# Altium footprint library Header_254.PcbLib: 78 footprints (part 1 of 9)
Each footprint in its own frame and in the unit in brackets; x right, y up, seen from the top. Pads: shape width x height; smd on the part's side, far side on the other; paste and mask are expansions set on the pad; w line width, h text height; cw(c..) or ccw(c..) is an arc to the next point about the centre after c.
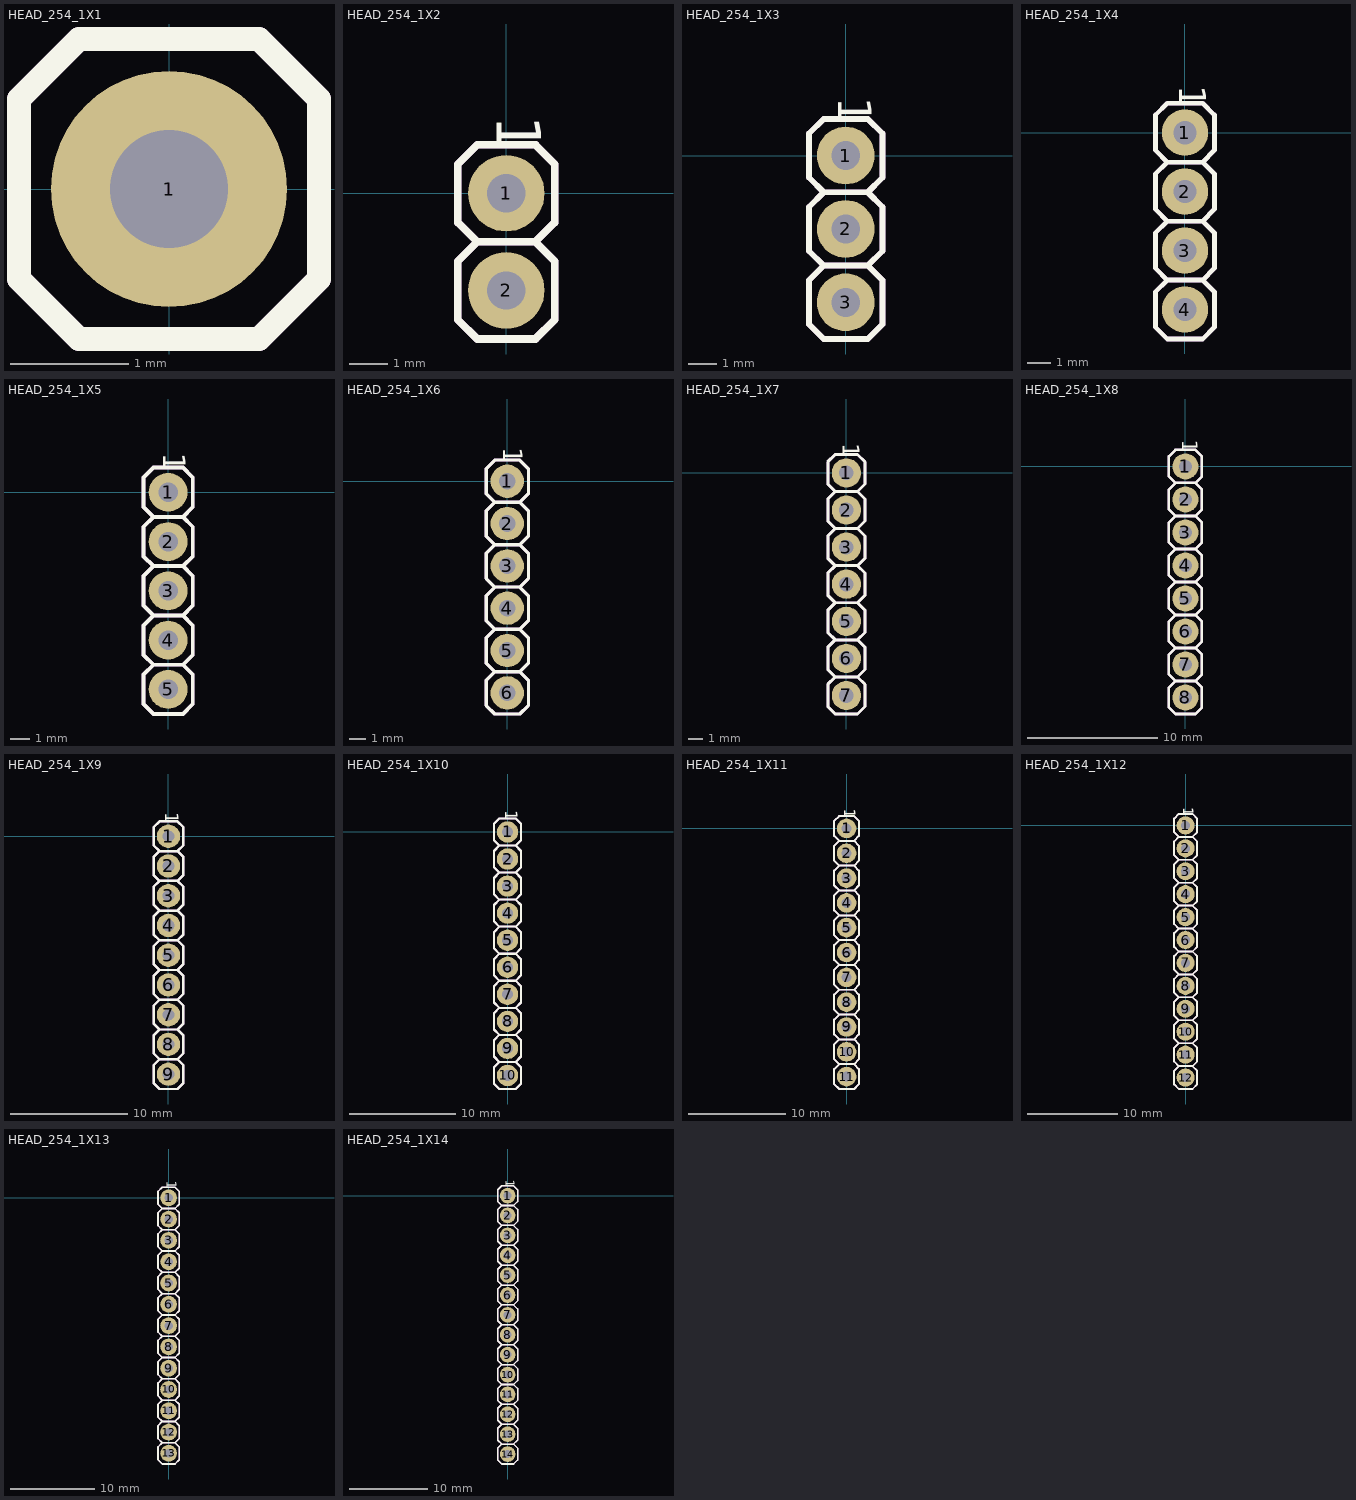
[diagram p0: the footprints below, top view; thin cyan lines are the x and y axes]

## HEAD_254_1X1 [mm] "Header 2.54mm 1x1"
pads (1):
  round 2 hole 1: 1(0,0)
Top Overlay:
  lines w0.2: -1.27,-0.762 -1.27,0.762 -0.762,1.27 0.762,1.27 1.27,0.762 1.27,-0.762 0.762,-1.27 -0.762,-1.27 -1.27,-0.762
Top Assembly:
  lines w0.2: -1.27,-0.762 -0.762,-1.27 0.762,-1.27 1.27,-0.762 1.27,0.762 0.762,1.27 -0.762,1.27 -1.27,0.762 -1.27,-0.762
3D body: height 2, standoff 0, extent -1.27,-1.27 1.27,1.27
3D body: height 10, standoff -3, extent -0.35,-0.35 0.35,0.35

## HEAD_254_1X2 [mm] "Header 2.54mm 1x2"
pads (2):
  round 2 hole 1: 1(0,0) 2(0,-2.54)
Top Overlay:
  lines w0.2: -0.762,-1.27 -1.27,-1.778 -1.27,-3.302 -0.762,-3.81 0.762,-3.81 1.27,-3.302 1.27,-1.778 0.762,-1.27 ; -0.762,-1.27 -1.27,-0.762 -1.27,0.762 -0.762,1.27 0.762,1.27 1.27,0.762 1.27,-0.762 0.762,-1.27 ; -0.762,-1.27 0.762,-1.27
  text "1" at -0.642,2.036 h2
Bottom Overlay:
  text "1" at -0.642,1.264 h2
Top Assembly:
  lines w0.2: -0.762,-1.27 -1.27,-1.778 -1.27,-3.302 -0.762,-3.81 0.762,-3.81 1.27,-3.302 1.27,-1.778 0.762,-1.27 ; -0.762,-1.27 -1.27,-0.762 -1.27,0.762 -0.762,1.27 0.762,1.27 1.27,0.762 1.27,-0.762 0.762,-1.27 ; -0.762,-1.27 0.762,-1.27
3D body: height 10, standoff -3, extent -0.35,-2.89 0.35,-2.19
3D body: height 2, standoff 0, extent -1.27,-3.81 1.27,-1.27
3D body: height 10, standoff -3, extent -0.35,-0.35 0.35,0.35
3D body: height 2, standoff 0, extent -1.27,-1.27 1.27,1.27

## HEAD_254_1X3 [mm] "Header 2.54mm 1x3"
pads (3):
  round 2 hole 1: 1(0,0) 2(0,-2.54) 3(0,-5.08)
Top Overlay:
  lines w0.2: -0.762,-3.81 -1.27,-4.318 -1.27,-5.842 -0.762,-6.35 0.762,-6.35 1.27,-5.842 1.27,-4.318 0.762,-3.81 ; -0.762,-3.81 -1.27,-3.302 -1.27,-1.778 -0.762,-1.27 ; -0.762,-3.81 0.762,-3.81 ; -0.762,-1.27 -1.27,-0.762 -1.27,0.762 -0.762,1.27 0.762,1.27 1.27,0.762 1.27,-0.762 0.762,-1.27 ; -0.762,-1.27 0.762,-1.27 ; 0.762,-3.81 1.27,-3.302 1.27,-1.778 0.762,-1.27
  text "1" at -0.642,2.036 h2
Bottom Overlay:
  text "1" at -0.642,1.264 h2
Top Assembly:
  lines w0.2: -0.762,-3.81 -1.27,-4.318 -1.27,-5.842 -0.762,-6.35 0.762,-6.35 1.27,-5.842 1.27,-4.318 0.762,-3.81 ; -0.762,-3.81 -1.27,-3.302 -1.27,-1.778 -0.762,-1.27 ; -0.762,-3.81 0.762,-3.81 ; -0.762,-1.27 -1.27,-0.762 -1.27,0.762 -0.762,1.27 0.762,1.27 1.27,0.762 1.27,-0.762 0.762,-1.27 ; -0.762,-1.27 0.762,-1.27 ; 0.762,-3.81 1.27,-3.302 1.27,-1.778 0.762,-1.27
3D body: height 10, standoff -3, extent -0.35,-5.43 0.35,-4.73
3D body: height 2, standoff 0, extent -1.27,-6.35 1.27,-3.81
3D body: height 10, standoff -3, extent -0.35,-2.89 0.35,-2.19
3D body: height 2, standoff 0, extent -1.27,-3.81 1.27,-1.27
3D body: height 10, standoff -3, extent -0.35,-0.35 0.35,0.35
3D body: height 2, standoff 0, extent -1.27,-1.27 1.27,1.27

## HEAD_254_1X4 [mm] "Header 2.54mm 1x4"
pads (4):
  round 2 hole 1: 1(0,0) 2(0,-2.54) 3(0,-5.08) 4(0,-7.62)
Top Overlay:
  lines w0.2: -0.762,-6.35 -1.27,-5.842 -1.27,-4.318 -0.762,-3.81 ; -0.762,-6.35 0.762,-6.35 ; -0.762,-6.35 -1.27,-6.858 -1.27,-8.382 -0.762,-8.89 0.762,-8.89 1.27,-8.382 1.27,-6.858 0.762,-6.35 ; -0.762,-3.81 -1.27,-3.302 -1.27,-1.778 -0.762,-1.27 ; -0.762,-3.81 0.762,-3.81 ; -0.762,-1.27 -1.27,-0.762 -1.27,0.762 -0.762,1.27 0.762,1.27 1.27,0.762 1.27,-0.762 0.762,-1.27 ; -0.762,-1.27 0.762,-1.27 ; 0.762,-6.35 1.27,-5.842 1.27,-4.318 0.762,-3.81 ; 0.762,-3.81 1.27,-3.302 1.27,-1.778 0.762,-1.27
  text "1" at -0.642,2.036 h2
Bottom Overlay:
  text "1" at -0.642,1.264 h2
Top Assembly:
  lines w0.2: -0.762,-6.35 -1.27,-5.842 -1.27,-4.318 -0.762,-3.81 ; -0.762,-6.35 0.762,-6.35 ; -0.762,-6.35 -1.27,-6.858 -1.27,-8.382 -0.762,-8.89 0.762,-8.89 1.27,-8.382 1.27,-6.858 0.762,-6.35 ; -0.762,-3.81 -1.27,-3.302 -1.27,-1.778 -0.762,-1.27 ; -0.762,-3.81 0.762,-3.81 ; -0.762,-1.27 -1.27,-0.762 -1.27,0.762 -0.762,1.27 0.762,1.27 1.27,0.762 1.27,-0.762 0.762,-1.27 ; -0.762,-1.27 0.762,-1.27 ; 0.762,-6.35 1.27,-5.842 1.27,-4.318 0.762,-3.81 ; 0.762,-3.81 1.27,-3.302 1.27,-1.778 0.762,-1.27
3D body: height 10, standoff -3, extent -0.35,-5.43 0.35,-4.73
3D body: height 2, standoff 0, extent -1.27,-6.35 1.27,-3.81
3D body: height 10, standoff -3, extent -0.35,-2.89 0.35,-2.19
3D body: height 2, standoff 0, extent -1.27,-3.81 1.27,-1.27
3D body: height 10, standoff -3, extent -0.35,-0.35 0.35,0.35
3D body: height 2, standoff 0, extent -1.27,-1.27 1.27,1.27
3D body: height 10, standoff -3, extent -0.35,-7.97 0.35,-7.27
3D body: height 2, standoff 0, extent -1.27,-8.89 1.27,-6.35

## HEAD_254_1X5 [mm] "Header 2.54mm 1x5"
pads (5):
  round 2 hole 1: 1(0,0) 2(0,-2.54) 3(0,-5.08) 4(0,-7.62) 5(0,-10.16)
Top Overlay:
  lines w0.2: -0.762,-8.89 0.762,-8.89 ; -0.762,-8.89 -1.27,-8.382 -1.27,-6.858 -0.762,-6.35 ; -0.762,-8.89 -1.27,-9.398 -1.27,-10.922 -0.762,-11.43 0.762,-11.43 1.27,-10.922 1.27,-9.398 0.762,-8.89 ; -0.762,-6.35 0.762,-6.35 ; -0.762,-6.35 -1.27,-5.842 -1.27,-4.318 -0.762,-3.81 ; -0.762,-3.81 0.762,-3.81 ; -0.762,-3.81 -1.27,-3.302 -1.27,-1.778 -0.762,-1.27 ; -0.762,-1.27 0.762,-1.27 ; -0.762,-1.27 -1.27,-0.762 -1.27,0.762 -0.762,1.27 0.762,1.27 1.27,0.762 1.27,-0.762 0.762,-1.27 ; 0.762,-8.89 1.27,-8.382 1.27,-6.858 0.762,-6.35 ; 0.762,-6.35 1.27,-5.842 1.27,-4.318 0.762,-3.81 ; 0.762,-3.81 1.27,-3.302 1.27,-1.778 0.762,-1.27
  text "1" at -0.642,2.036 h2
Bottom Overlay:
  text "1" at -0.642,1.264 h2
Top Assembly:
  lines w0.2: -0.762,-8.89 0.762,-8.89 ; -0.762,-8.89 -1.27,-8.382 -1.27,-6.858 -0.762,-6.35 ; -0.762,-8.89 -1.27,-9.398 -1.27,-10.922 -0.762,-11.43 0.762,-11.43 1.27,-10.922 1.27,-9.398 0.762,-8.89 ; -0.762,-6.35 0.762,-6.35 ; -0.762,-6.35 -1.27,-5.842 -1.27,-4.318 -0.762,-3.81 ; -0.762,-3.81 0.762,-3.81 ; -0.762,-3.81 -1.27,-3.302 -1.27,-1.778 -0.762,-1.27 ; -0.762,-1.27 0.762,-1.27 ; -0.762,-1.27 -1.27,-0.762 -1.27,0.762 -0.762,1.27 0.762,1.27 1.27,0.762 1.27,-0.762 0.762,-1.27 ; 0.762,-8.89 1.27,-8.382 1.27,-6.858 0.762,-6.35 ; 0.762,-6.35 1.27,-5.842 1.27,-4.318 0.762,-3.81 ; 0.762,-3.81 1.27,-3.302 1.27,-1.778 0.762,-1.27
3D body: height 2, standoff 0, extent -1.27,-8.89 1.27,-6.35
3D body: height 10, standoff -3, extent -0.35,-7.97 0.35,-7.27
3D body: height 2, standoff 0, extent -1.27,-1.27 1.27,1.27
3D body: height 10, standoff -3, extent -0.35,-0.35 0.35,0.35
3D body: height 2, standoff 0, extent -1.27,-3.81 1.27,-1.27
3D body: height 10, standoff -3, extent -0.35,-2.89 0.35,-2.19
3D body: height 2, standoff 0, extent -1.27,-6.35 1.27,-3.81
3D body: height 10, standoff -3, extent -0.35,-5.43 0.35,-4.73
3D body: height 2, standoff 0, extent -1.27,-11.43 1.27,-8.89
3D body: height 10, standoff -3, extent -0.35,-10.51 0.35,-9.81

## HEAD_254_1X6 [mm] "Header 2.54mm 1x6"
pads (6):
  round 2 hole 1: 1(0,0) 2(0,-2.54) 3(0,-5.08) 4(0,-7.62) 5(0,-10.16) 6(0,-12.7)
Top Overlay:
  lines w0.2: -0.762,-11.43 0.762,-11.43 ; -0.762,-11.43 -1.27,-10.922 -1.27,-9.398 -0.762,-8.89 ; -0.762,-11.43 -1.27,-11.938 -1.27,-13.462 -0.762,-13.97 0.762,-13.97 1.27,-13.462 1.27,-11.938 0.762,-11.43 ; -0.762,-8.89 0.762,-8.89 ; -0.762,-8.89 -1.27,-8.382 -1.27,-6.858 -0.762,-6.35 ; -0.762,-6.35 0.762,-6.35 ; -0.762,-6.35 -1.27,-5.842 -1.27,-4.318 -0.762,-3.81 ; -0.762,-3.81 0.762,-3.81 ; -0.762,-3.81 -1.27,-3.302 -1.27,-1.778 -0.762,-1.27 ; -0.762,-1.27 0.762,-1.27 ; -0.762,-1.27 -1.27,-0.762 -1.27,0.762 -0.762,1.27 0.762,1.27 1.27,0.762 1.27,-0.762 0.762,-1.27 ; 0.762,-11.43 1.27,-10.922 1.27,-9.398 0.762,-8.89 ; 0.762,-8.89 1.27,-8.382 1.27,-6.858 0.762,-6.35 ; 0.762,-6.35 1.27,-5.842 1.27,-4.318 0.762,-3.81 ; 0.762,-3.81 1.27,-3.302 1.27,-1.778 0.762,-1.27
  text "1" at -0.642,2.036 h2
Bottom Overlay:
  text "1" at -0.642,1.264 h2
Top Assembly:
  lines w0.2: -0.762,-11.43 0.762,-11.43 ; -0.762,-11.43 -1.27,-10.922 -1.27,-9.398 -0.762,-8.89 ; -0.762,-11.43 -1.27,-11.938 -1.27,-13.462 -0.762,-13.97 0.762,-13.97 1.27,-13.462 1.27,-11.938 0.762,-11.43 ; -0.762,-8.89 0.762,-8.89 ; -0.762,-8.89 -1.27,-8.382 -1.27,-6.858 -0.762,-6.35 ; -0.762,-6.35 0.762,-6.35 ; -0.762,-6.35 -1.27,-5.842 -1.27,-4.318 -0.762,-3.81 ; -0.762,-3.81 0.762,-3.81 ; -0.762,-3.81 -1.27,-3.302 -1.27,-1.778 -0.762,-1.27 ; -0.762,-1.27 0.762,-1.27 ; -0.762,-1.27 -1.27,-0.762 -1.27,0.762 -0.762,1.27 0.762,1.27 1.27,0.762 1.27,-0.762 0.762,-1.27 ; 0.762,-11.43 1.27,-10.922 1.27,-9.398 0.762,-8.89 ; 0.762,-8.89 1.27,-8.382 1.27,-6.858 0.762,-6.35 ; 0.762,-6.35 1.27,-5.842 1.27,-4.318 0.762,-3.81 ; 0.762,-3.81 1.27,-3.302 1.27,-1.778 0.762,-1.27
3D body: height 2, standoff 0, extent -1.27,-8.89 1.27,-6.35
3D body: height 10, standoff -3, extent -0.35,-7.97 0.35,-7.27
3D body: height 2, standoff 0, extent -1.27,-1.27 1.27,1.27
3D body: height 10, standoff -3, extent -0.35,-0.35 0.35,0.35
3D body: height 2, standoff 0, extent -1.27,-3.81 1.27,-1.27
3D body: height 10, standoff -3, extent -0.35,-2.89 0.35,-2.19
3D body: height 2, standoff 0, extent -1.27,-6.35 1.27,-3.81
3D body: height 10, standoff -3, extent -0.35,-5.43 0.35,-4.73
3D body: height 2, standoff 0, extent -1.27,-11.43 1.27,-8.89
3D body: height 10, standoff -3, extent -0.35,-10.51 0.35,-9.81
3D body: height 2, standoff 0, extent -1.27,-13.97 1.27,-11.43
3D body: height 10, standoff -3, extent -0.35,-13.05 0.35,-12.35

## HEAD_254_1X7 [mm] "Header 2.54mm 1x7"
pads (7):
  round 2 hole 1: 1(0,0) 2(0,-2.54) 3(0,-5.08) 4(0,-7.62) 5(0,-10.16) 6(0,-12.7) 7(0,-15.24)
Top Overlay:
  lines w0.2: -0.762,-13.97 0.762,-13.97 ; -0.762,-13.97 -1.27,-13.462 -1.27,-11.938 -0.762,-11.43 ; -0.762,-13.97 -1.27,-14.478 -1.27,-16.002 -0.762,-16.51 0.762,-16.51 1.27,-16.002 1.27,-14.478 0.762,-13.97 ; -0.762,-11.43 0.762,-11.43 ; -0.762,-11.43 -1.27,-10.922 -1.27,-9.398 -0.762,-8.89 ; -0.762,-8.89 0.762,-8.89 ; -0.762,-8.89 -1.27,-8.382 -1.27,-6.858 -0.762,-6.35 ; -0.762,-6.35 0.762,-6.35 ; -0.762,-6.35 -1.27,-5.842 -1.27,-4.318 -0.762,-3.81 ; -0.762,-3.81 0.762,-3.81 ; -0.762,-3.81 -1.27,-3.302 -1.27,-1.778 -0.762,-1.27 ; -0.762,-1.27 0.762,-1.27 ; -0.762,-1.27 -1.27,-0.762 -1.27,0.762 -0.762,1.27 0.762,1.27 1.27,0.762 1.27,-0.762 0.762,-1.27 ; 0.762,-13.97 1.27,-13.462 1.27,-11.938 0.762,-11.43 ; 0.762,-11.43 1.27,-10.922 1.27,-9.398 0.762,-8.89 ; 0.762,-8.89 1.27,-8.382 1.27,-6.858 0.762,-6.35 ; 0.762,-6.35 1.27,-5.842 1.27,-4.318 0.762,-3.81 ; 0.762,-3.81 1.27,-3.302 1.27,-1.778 0.762,-1.27
  text "1" at -0.642,2.036 h2
Bottom Overlay:
  text "1" at -0.642,1.264 h2
Top Assembly:
  lines w0.2: -0.762,-13.97 0.762,-13.97 ; -0.762,-13.97 -1.27,-13.462 -1.27,-11.938 -0.762,-11.43 ; -0.762,-13.97 -1.27,-14.478 -1.27,-16.002 -0.762,-16.51 0.762,-16.51 1.27,-16.002 1.27,-14.478 0.762,-13.97 ; -0.762,-11.43 0.762,-11.43 ; -0.762,-11.43 -1.27,-10.922 -1.27,-9.398 -0.762,-8.89 ; -0.762,-8.89 0.762,-8.89 ; -0.762,-8.89 -1.27,-8.382 -1.27,-6.858 -0.762,-6.35 ; -0.762,-6.35 0.762,-6.35 ; -0.762,-6.35 -1.27,-5.842 -1.27,-4.318 -0.762,-3.81 ; -0.762,-3.81 0.762,-3.81 ; -0.762,-3.81 -1.27,-3.302 -1.27,-1.778 -0.762,-1.27 ; -0.762,-1.27 0.762,-1.27 ; -0.762,-1.27 -1.27,-0.762 -1.27,0.762 -0.762,1.27 0.762,1.27 1.27,0.762 1.27,-0.762 0.762,-1.27 ; 0.762,-13.97 1.27,-13.462 1.27,-11.938 0.762,-11.43 ; 0.762,-11.43 1.27,-10.922 1.27,-9.398 0.762,-8.89 ; 0.762,-8.89 1.27,-8.382 1.27,-6.858 0.762,-6.35 ; 0.762,-6.35 1.27,-5.842 1.27,-4.318 0.762,-3.81 ; 0.762,-3.81 1.27,-3.302 1.27,-1.778 0.762,-1.27
3D body: height 2, standoff 0, extent -1.27,-8.89 1.27,-6.35
3D body: height 10, standoff -3, extent -0.35,-7.97 0.35,-7.27
3D body: height 2, standoff 0, extent -1.27,-1.27 1.27,1.27
3D body: height 10, standoff -3, extent -0.35,-0.35 0.35,0.35
3D body: height 2, standoff 0, extent -1.27,-3.81 1.27,-1.27
3D body: height 10, standoff -3, extent -0.35,-2.89 0.35,-2.19
3D body: height 2, standoff 0, extent -1.27,-6.35 1.27,-3.81
3D body: height 10, standoff -3, extent -0.35,-5.43 0.35,-4.73
3D body: height 2, standoff 0, extent -1.27,-11.43 1.27,-8.89
3D body: height 10, standoff -3, extent -0.35,-10.51 0.35,-9.81
3D body: height 2, standoff 0, extent -1.27,-13.97 1.27,-11.43
3D body: height 10, standoff -3, extent -0.35,-13.05 0.35,-12.35
3D body: height 2, standoff 0, extent -1.27,-16.51 1.27,-13.97
3D body: height 10, standoff -3, extent -0.35,-15.59 0.35,-14.89

## HEAD_254_1X8 [mm] "Header 2.54mm 1x8"
pads (8):
  round 2 hole 1: 1(0,0) 2(0,-2.54) 3(0,-5.08) 4(0,-7.62) 5(0,-10.16) 6(0,-12.7) 7(0,-15.24) 8(0,-17.78)
Top Overlay:
  lines w0.2: -0.762,-16.51 -1.27,-17.018 -1.27,-18.542 -0.762,-19.05 0.762,-19.05 1.27,-18.542 1.27,-17.018 0.762,-16.51 ; -0.762,-16.51 -1.27,-16.002 -1.27,-14.478 -0.762,-13.97 ; -0.762,-16.51 0.762,-16.51 ; -0.762,-13.97 -1.27,-13.462 -1.27,-11.938 -0.762,-11.43 ; -0.762,-13.97 0.762,-13.97 ; -0.762,-11.43 -1.27,-10.922 -1.27,-9.398 -0.762,-8.89 ; -0.762,-11.43 0.762,-11.43 ; -0.762,-8.89 -1.27,-8.382 -1.27,-6.858 -0.762,-6.35 ; -0.762,-8.89 0.762,-8.89 ; -0.762,-6.35 -1.27,-5.842 -1.27,-4.318 -0.762,-3.81 ; -0.762,-6.35 0.762,-6.35 ; -0.762,-3.81 -1.27,-3.302 -1.27,-1.778 -0.762,-1.27 ; -0.762,-3.81 0.762,-3.81 ; -0.762,-1.27 -1.27,-0.762 -1.27,0.762 -0.762,1.27 0.762,1.27 1.27,0.762 1.27,-0.762 0.762,-1.27 ; -0.762,-1.27 0.762,-1.27 ; 0.762,-16.51 1.27,-16.002 1.27,-14.478 0.762,-13.97 ; 0.762,-13.97 1.27,-13.462 1.27,-11.938 0.762,-11.43 ; 0.762,-11.43 1.27,-10.922 1.27,-9.398 0.762,-8.89 ; 0.762,-8.89 1.27,-8.382 1.27,-6.858 0.762,-6.35 ; 0.762,-6.35 1.27,-5.842 1.27,-4.318 0.762,-3.81 ; 0.762,-3.81 1.27,-3.302 1.27,-1.778 0.762,-1.27
  text "1" at -0.642,2.036 h2
Bottom Overlay:
  text "1" at -0.642,1.264 h2
Top Assembly:
  lines w0.2: -0.762,-16.51 -1.27,-17.018 -1.27,-18.542 -0.762,-19.05 0.762,-19.05 1.27,-18.542 1.27,-17.018 0.762,-16.51 ; -0.762,-16.51 -1.27,-16.002 -1.27,-14.478 -0.762,-13.97 ; -0.762,-16.51 0.762,-16.51 ; -0.762,-13.97 -1.27,-13.462 -1.27,-11.938 -0.762,-11.43 ; -0.762,-13.97 0.762,-13.97 ; -0.762,-11.43 -1.27,-10.922 -1.27,-9.398 -0.762,-8.89 ; -0.762,-11.43 0.762,-11.43 ; -0.762,-8.89 -1.27,-8.382 -1.27,-6.858 -0.762,-6.35 ; -0.762,-8.89 0.762,-8.89 ; -0.762,-6.35 -1.27,-5.842 -1.27,-4.318 -0.762,-3.81 ; -0.762,-6.35 0.762,-6.35 ; -0.762,-3.81 -1.27,-3.302 -1.27,-1.778 -0.762,-1.27 ; -0.762,-3.81 0.762,-3.81 ; -0.762,-1.27 -1.27,-0.762 -1.27,0.762 -0.762,1.27 0.762,1.27 1.27,0.762 1.27,-0.762 0.762,-1.27 ; -0.762,-1.27 0.762,-1.27 ; 0.762,-16.51 1.27,-16.002 1.27,-14.478 0.762,-13.97 ; 0.762,-13.97 1.27,-13.462 1.27,-11.938 0.762,-11.43 ; 0.762,-11.43 1.27,-10.922 1.27,-9.398 0.762,-8.89 ; 0.762,-8.89 1.27,-8.382 1.27,-6.858 0.762,-6.35 ; 0.762,-6.35 1.27,-5.842 1.27,-4.318 0.762,-3.81 ; 0.762,-3.81 1.27,-3.302 1.27,-1.778 0.762,-1.27
3D body: height 10, standoff -3, extent -0.35,-18.13 0.35,-17.43
3D body: height 2, standoff 0, extent -1.27,-19.05 1.27,-16.51
3D body: height 10, standoff -3, extent -0.35,-15.59 0.35,-14.89
3D body: height 2, standoff 0, extent -1.27,-16.51 1.27,-13.97
3D body: height 10, standoff -3, extent -0.35,-13.05 0.35,-12.35
3D body: height 2, standoff 0, extent -1.27,-13.97 1.27,-11.43
3D body: height 10, standoff -3, extent -0.35,-10.51 0.35,-9.81
3D body: height 2, standoff 0, extent -1.27,-11.43 1.27,-8.89
3D body: height 10, standoff -3, extent -0.35,-5.43 0.35,-4.73
3D body: height 2, standoff 0, extent -1.27,-6.35 1.27,-3.81
3D body: height 10, standoff -3, extent -0.35,-2.89 0.35,-2.19
3D body: height 2, standoff 0, extent -1.27,-3.81 1.27,-1.27
3D body: height 10, standoff -3, extent -0.35,-0.35 0.35,0.35
3D body: height 2, standoff 0, extent -1.27,-1.27 1.27,1.27
3D body: height 10, standoff -3, extent -0.35,-7.97 0.35,-7.27
3D body: height 2, standoff 0, extent -1.27,-8.89 1.27,-6.35

## HEAD_254_1X9 [mm] "Header 2.54mm 1x9"
pads (9):
  round 2 hole 1: 1(0,0) 2(0,-2.54) 3(0,-5.08) 4(0,-7.62) 5(0,-10.16) 6(0,-12.7) 7(0,-15.24) 8(0,-17.78) 9(0,-20.32)
Top Overlay:
  lines w0.2: -0.762,-19.05 -1.27,-18.542 -1.27,-17.018 -0.762,-16.51 ; -0.762,-19.05 0.762,-19.05 ; -0.762,-19.05 -1.27,-19.558 -1.27,-21.082 -0.762,-21.59 0.762,-21.59 1.27,-21.082 1.27,-19.558 0.762,-19.05 ; -0.762,-16.51 -1.27,-16.002 -1.27,-14.478 -0.762,-13.97 ; -0.762,-16.51 0.762,-16.51 ; -0.762,-13.97 -1.27,-13.462 -1.27,-11.938 -0.762,-11.43 ; -0.762,-13.97 0.762,-13.97 ; -0.762,-11.43 -1.27,-10.922 -1.27,-9.398 -0.762,-8.89 ; -0.762,-11.43 0.762,-11.43 ; -0.762,-8.89 -1.27,-8.382 -1.27,-6.858 -0.762,-6.35 ; -0.762,-8.89 0.762,-8.89 ; -0.762,-6.35 -1.27,-5.842 -1.27,-4.318 -0.762,-3.81 ; -0.762,-6.35 0.762,-6.35 ; -0.762,-3.81 -1.27,-3.302 -1.27,-1.778 -0.762,-1.27 ; -0.762,-3.81 0.762,-3.81 ; -0.762,-1.27 -1.27,-0.762 -1.27,0.762 -0.762,1.27 0.762,1.27 1.27,0.762 1.27,-0.762 0.762,-1.27 ; -0.762,-1.27 0.762,-1.27 ; 0.762,-19.05 1.27,-18.542 1.27,-17.018 0.762,-16.51 ; 0.762,-16.51 1.27,-16.002 1.27,-14.478 0.762,-13.97 ; 0.762,-13.97 1.27,-13.462 1.27,-11.938 0.762,-11.43 ; 0.762,-11.43 1.27,-10.922 1.27,-9.398 0.762,-8.89 ; 0.762,-8.89 1.27,-8.382 1.27,-6.858 0.762,-6.35 ; 0.762,-6.35 1.27,-5.842 1.27,-4.318 0.762,-3.81 ; 0.762,-3.81 1.27,-3.302 1.27,-1.778 0.762,-1.27
  text "1" at -0.642,2.036 h2
Bottom Overlay:
  text "1" at -0.642,1.264 h2
Top Assembly:
  lines w0.2: -0.762,-19.05 -1.27,-18.542 -1.27,-17.018 -0.762,-16.51 ; -0.762,-19.05 0.762,-19.05 ; -0.762,-19.05 -1.27,-19.558 -1.27,-21.082 -0.762,-21.59 0.762,-21.59 1.27,-21.082 1.27,-19.558 0.762,-19.05 ; -0.762,-16.51 -1.27,-16.002 -1.27,-14.478 -0.762,-13.97 ; -0.762,-16.51 0.762,-16.51 ; -0.762,-13.97 -1.27,-13.462 -1.27,-11.938 -0.762,-11.43 ; -0.762,-13.97 0.762,-13.97 ; -0.762,-11.43 -1.27,-10.922 -1.27,-9.398 -0.762,-8.89 ; -0.762,-11.43 0.762,-11.43 ; -0.762,-8.89 -1.27,-8.382 -1.27,-6.858 -0.762,-6.35 ; -0.762,-8.89 0.762,-8.89 ; -0.762,-6.35 -1.27,-5.842 -1.27,-4.318 -0.762,-3.81 ; -0.762,-6.35 0.762,-6.35 ; -0.762,-3.81 -1.27,-3.302 -1.27,-1.778 -0.762,-1.27 ; -0.762,-3.81 0.762,-3.81 ; -0.762,-1.27 -1.27,-0.762 -1.27,0.762 -0.762,1.27 0.762,1.27 1.27,0.762 1.27,-0.762 0.762,-1.27 ; -0.762,-1.27 0.762,-1.27 ; 0.762,-19.05 1.27,-18.542 1.27,-17.018 0.762,-16.51 ; 0.762,-16.51 1.27,-16.002 1.27,-14.478 0.762,-13.97 ; 0.762,-13.97 1.27,-13.462 1.27,-11.938 0.762,-11.43 ; 0.762,-11.43 1.27,-10.922 1.27,-9.398 0.762,-8.89 ; 0.762,-8.89 1.27,-8.382 1.27,-6.858 0.762,-6.35 ; 0.762,-6.35 1.27,-5.842 1.27,-4.318 0.762,-3.81 ; 0.762,-3.81 1.27,-3.302 1.27,-1.778 0.762,-1.27
3D body: height 10, standoff -3, extent -0.35,-18.13 0.35,-17.43
3D body: height 2, standoff 0, extent -1.27,-19.05 1.27,-16.51
3D body: height 10, standoff -3, extent -0.35,-15.59 0.35,-14.89
3D body: height 2, standoff 0, extent -1.27,-16.51 1.27,-13.97
3D body: height 10, standoff -3, extent -0.35,-13.05 0.35,-12.35
3D body: height 2, standoff 0, extent -1.27,-13.97 1.27,-11.43
3D body: height 10, standoff -3, extent -0.35,-10.51 0.35,-9.81
3D body: height 2, standoff 0, extent -1.27,-11.43 1.27,-8.89
3D body: height 10, standoff -3, extent -0.35,-5.43 0.35,-4.73
3D body: height 2, standoff 0, extent -1.27,-6.35 1.27,-3.81
3D body: height 10, standoff -3, extent -0.35,-2.89 0.35,-2.19
3D body: height 2, standoff 0, extent -1.27,-3.81 1.27,-1.27
3D body: height 10, standoff -3, extent -0.35,-0.35 0.35,0.35
3D body: height 2, standoff 0, extent -1.27,-1.27 1.27,1.27
3D body: height 10, standoff -3, extent -0.35,-7.97 0.35,-7.27
3D body: height 2, standoff 0, extent -1.27,-8.89 1.27,-6.35
3D body: height 10, standoff -3, extent -0.35,-20.67 0.35,-19.97
3D body: height 2, standoff 0, extent -1.27,-21.59 1.27,-19.05

## HEAD_254_1X10 [mm] "Header 2.54mm 1x10"
pads (10):
  round 2 hole 1: 1(0,0) 2(0,-2.54) 3(0,-5.08) 4(0,-7.62) 5(0,-10.16) 6(0,-12.7) 7(0,-15.24) 8(0,-17.78) 9(0,-20.32) 10(0,-22.86)
Top Overlay:
  lines w0.2: -0.762,-21.59 -1.27,-22.098 -1.27,-23.622 -0.762,-24.13 0.762,-24.13 1.27,-23.622 1.27,-22.098 0.762,-21.59 ; -0.762,-21.59 -1.27,-21.082 -1.27,-19.558 -0.762,-19.05 ; -0.762,-21.59 0.762,-21.59 ; -0.762,-19.05 -1.27,-18.542 -1.27,-17.018 -0.762,-16.51 ; -0.762,-19.05 0.762,-19.05 ; -0.762,-16.51 -1.27,-16.002 -1.27,-14.478 -0.762,-13.97 ; -0.762,-16.51 0.762,-16.51 ; -0.762,-13.97 -1.27,-13.462 -1.27,-11.938 -0.762,-11.43 ; -0.762,-13.97 0.762,-13.97 ; -0.762,-11.43 -1.27,-10.922 -1.27,-9.398 -0.762,-8.89 ; -0.762,-11.43 0.762,-11.43 ; -0.762,-8.89 -1.27,-8.382 -1.27,-6.858 -0.762,-6.35 ; -0.762,-8.89 0.762,-8.89 ; -0.762,-6.35 -1.27,-5.842 -1.27,-4.318 -0.762,-3.81 ; -0.762,-6.35 0.762,-6.35 ; -0.762,-3.81 -1.27,-3.302 -1.27,-1.778 -0.762,-1.27 ; -0.762,-3.81 0.762,-3.81 ; -0.762,-1.27 -1.27,-0.762 -1.27,0.762 -0.762,1.27 0.762,1.27 1.27,0.762 1.27,-0.762 0.762,-1.27 ; -0.762,-1.27 0.762,-1.27 ; 0.762,-21.59 1.27,-21.082 1.27,-19.558 0.762,-19.05 ; 0.762,-19.05 1.27,-18.542 1.27,-17.018 0.762,-16.51 ; 0.762,-16.51 1.27,-16.002 1.27,-14.478 0.762,-13.97 ; 0.762,-13.97 1.27,-13.462 1.27,-11.938 0.762,-11.43 ; 0.762,-11.43 1.27,-10.922 1.27,-9.398 0.762,-8.89 ; 0.762,-8.89 1.27,-8.382 1.27,-6.858 0.762,-6.35 ; 0.762,-6.35 1.27,-5.842 1.27,-4.318 0.762,-3.81 ; 0.762,-3.81 1.27,-3.302 1.27,-1.778 0.762,-1.27
  text "1" at -0.642,2.036 h2
Bottom Overlay:
  text "1" at -0.642,1.264 h2
Top Assembly:
  lines w0.2: -0.762,-21.59 -1.27,-22.098 -1.27,-23.622 -0.762,-24.13 0.762,-24.13 1.27,-23.622 1.27,-22.098 0.762,-21.59 ; -0.762,-21.59 -1.27,-21.082 -1.27,-19.558 -0.762,-19.05 ; -0.762,-21.59 0.762,-21.59 ; -0.762,-19.05 -1.27,-18.542 -1.27,-17.018 -0.762,-16.51 ; -0.762,-19.05 0.762,-19.05 ; -0.762,-16.51 -1.27,-16.002 -1.27,-14.478 -0.762,-13.97 ; -0.762,-16.51 0.762,-16.51 ; -0.762,-13.97 -1.27,-13.462 -1.27,-11.938 -0.762,-11.43 ; -0.762,-13.97 0.762,-13.97 ; -0.762,-11.43 -1.27,-10.922 -1.27,-9.398 -0.762,-8.89 ; -0.762,-11.43 0.762,-11.43 ; -0.762,-8.89 -1.27,-8.382 -1.27,-6.858 -0.762,-6.35 ; -0.762,-8.89 0.762,-8.89 ; -0.762,-6.35 -1.27,-5.842 -1.27,-4.318 -0.762,-3.81 ; -0.762,-6.35 0.762,-6.35 ; -0.762,-3.81 -1.27,-3.302 -1.27,-1.778 -0.762,-1.27 ; -0.762,-3.81 0.762,-3.81 ; -0.762,-1.27 -1.27,-0.762 -1.27,0.762 -0.762,1.27 0.762,1.27 1.27,0.762 1.27,-0.762 0.762,-1.27 ; -0.762,-1.27 0.762,-1.27 ; 0.762,-21.59 1.27,-21.082 1.27,-19.558 0.762,-19.05 ; 0.762,-19.05 1.27,-18.542 1.27,-17.018 0.762,-16.51 ; 0.762,-16.51 1.27,-16.002 1.27,-14.478 0.762,-13.97 ; 0.762,-13.97 1.27,-13.462 1.27,-11.938 0.762,-11.43 ; 0.762,-11.43 1.27,-10.922 1.27,-9.398 0.762,-8.89 ; 0.762,-8.89 1.27,-8.382 1.27,-6.858 0.762,-6.35 ; 0.762,-6.35 1.27,-5.842 1.27,-4.318 0.762,-3.81 ; 0.762,-3.81 1.27,-3.302 1.27,-1.778 0.762,-1.27
3D body: height 10, standoff -3, extent -0.35,-23.21 0.35,-22.51
3D body: height 2, standoff 0, extent -1.27,-24.13 1.27,-21.59
3D body: height 10, standoff -3, extent -0.35,-18.13 0.35,-17.43
3D body: height 2, standoff 0, extent -1.27,-19.05 1.27,-16.51
3D body: height 10, standoff -3, extent -0.35,-15.59 0.35,-14.89
3D body: height 2, standoff 0, extent -1.27,-16.51 1.27,-13.97
3D body: height 10, standoff -3, extent -0.35,-13.05 0.35,-12.35
3D body: height 2, standoff 0, extent -1.27,-13.97 1.27,-11.43
3D body: height 10, standoff -3, extent -0.35,-10.51 0.35,-9.81
3D body: height 2, standoff 0, extent -1.27,-11.43 1.27,-8.89
3D body: height 10, standoff -3, extent -0.35,-5.43 0.35,-4.73
3D body: height 2, standoff 0, extent -1.27,-6.35 1.27,-3.81
3D body: height 10, standoff -3, extent -0.35,-2.89 0.35,-2.19
3D body: height 2, standoff 0, extent -1.27,-3.81 1.27,-1.27
3D body: height 10, standoff -3, extent -0.35,-0.35 0.35,0.35
3D body: height 2, standoff 0, extent -1.27,-1.27 1.27,1.27
3D body: height 10, standoff -3, extent -0.35,-7.97 0.35,-7.27
3D body: height 2, standoff 0, extent -1.27,-8.89 1.27,-6.35
3D body: height 10, standoff -3, extent -0.35,-20.67 0.35,-19.97
3D body: height 2, standoff 0, extent -1.27,-21.59 1.27,-19.05

## HEAD_254_1X11 [mm] "Header 2.54mm 1x11"
pads (11):
  round 2 hole 1: 1(0,0) 2(0,-2.54) 3(0,-5.08) 4(0,-7.62) 5(0,-10.16) 6(0,-12.7) 7(0,-15.24) 8(0,-17.78) 9(0,-20.32) 10(0,-22.86) 11(0,-25.4)
Top Overlay:
  lines w0.2: -0.762,-24.13 -1.27,-23.622 -1.27,-22.098 -0.762,-21.59 ; -0.762,-24.13 0.762,-24.13 ; -0.762,-24.13 -1.27,-24.638 -1.27,-26.162 -0.762,-26.67 0.762,-26.67 1.27,-26.162 1.27,-24.638 0.762,-24.13 ; -0.762,-21.59 -1.27,-21.082 -1.27,-19.558 -0.762,-19.05 ; -0.762,-21.59 0.762,-21.59 ; -0.762,-19.05 -1.27,-18.542 -1.27,-17.018 -0.762,-16.51 ; -0.762,-19.05 0.762,-19.05 ; -0.762,-16.51 -1.27,-16.002 -1.27,-14.478 -0.762,-13.97 ; -0.762,-16.51 0.762,-16.51 ; -0.762,-13.97 -1.27,-13.462 -1.27,-11.938 -0.762,-11.43 ; -0.762,-13.97 0.762,-13.97 ; -0.762,-11.43 -1.27,-10.922 -1.27,-9.398 -0.762,-8.89 ; -0.762,-11.43 0.762,-11.43 ; -0.762,-8.89 -1.27,-8.382 -1.27,-6.858 -0.762,-6.35 ; -0.762,-8.89 0.762,-8.89 ; -0.762,-6.35 -1.27,-5.842 -1.27,-4.318 -0.762,-3.81 ; -0.762,-6.35 0.762,-6.35 ; -0.762,-3.81 -1.27,-3.302 -1.27,-1.778 -0.762,-1.27 ; -0.762,-3.81 0.762,-3.81 ; -0.762,-1.27 -1.27,-0.762 -1.27,0.762 -0.762,1.27 0.762,1.27 1.27,0.762 1.27,-0.762 0.762,-1.27 ; -0.762,-1.27 0.762,-1.27 ; 0.762,-24.13 1.27,-23.622 1.27,-22.098 0.762,-21.59 ; 0.762,-21.59 1.27,-21.082 1.27,-19.558 0.762,-19.05 ; 0.762,-19.05 1.27,-18.542 1.27,-17.018 0.762,-16.51 ; 0.762,-16.51 1.27,-16.002 1.27,-14.478 0.762,-13.97 ; 0.762,-13.97 1.27,-13.462 1.27,-11.938 0.762,-11.43 ; 0.762,-11.43 1.27,-10.922 1.27,-9.398 0.762,-8.89 ; 0.762,-8.89 1.27,-8.382 1.27,-6.858 0.762,-6.35 ; 0.762,-6.35 1.27,-5.842 1.27,-4.318 0.762,-3.81 ; 0.762,-3.81 1.27,-3.302 1.27,-1.778 0.762,-1.27
  text "1" at -0.642,2.036 h2
Bottom Overlay:
  text "1" at -0.642,1.264 h2
Top Assembly:
  lines w0.2: -0.762,-24.13 -1.27,-23.622 -1.27,-22.098 -0.762,-21.59 ; -0.762,-24.13 0.762,-24.13 ; -0.762,-24.13 -1.27,-24.638 -1.27,-26.162 -0.762,-26.67 0.762,-26.67 1.27,-26.162 1.27,-24.638 0.762,-24.13 ; -0.762,-21.59 -1.27,-21.082 -1.27,-19.558 -0.762,-19.05 ; -0.762,-21.59 0.762,-21.59 ; -0.762,-19.05 -1.27,-18.542 -1.27,-17.018 -0.762,-16.51 ; -0.762,-19.05 0.762,-19.05 ; -0.762,-16.51 -1.27,-16.002 -1.27,-14.478 -0.762,-13.97 ; -0.762,-16.51 0.762,-16.51 ; -0.762,-13.97 -1.27,-13.462 -1.27,-11.938 -0.762,-11.43 ; -0.762,-13.97 0.762,-13.97 ; -0.762,-11.43 -1.27,-10.922 -1.27,-9.398 -0.762,-8.89 ; -0.762,-11.43 0.762,-11.43 ; -0.762,-8.89 -1.27,-8.382 -1.27,-6.858 -0.762,-6.35 ; -0.762,-8.89 0.762,-8.89 ; -0.762,-6.35 -1.27,-5.842 -1.27,-4.318 -0.762,-3.81 ; -0.762,-6.35 0.762,-6.35 ; -0.762,-3.81 -1.27,-3.302 -1.27,-1.778 -0.762,-1.27 ; -0.762,-3.81 0.762,-3.81 ; -0.762,-1.27 -1.27,-0.762 -1.27,0.762 -0.762,1.27 0.762,1.27 1.27,0.762 1.27,-0.762 0.762,-1.27 ; -0.762,-1.27 0.762,-1.27 ; 0.762,-24.13 1.27,-23.622 1.27,-22.098 0.762,-21.59 ; 0.762,-21.59 1.27,-21.082 1.27,-19.558 0.762,-19.05 ; 0.762,-19.05 1.27,-18.542 1.27,-17.018 0.762,-16.51 ; 0.762,-16.51 1.27,-16.002 1.27,-14.478 0.762,-13.97 ; 0.762,-13.97 1.27,-13.462 1.27,-11.938 0.762,-11.43 ; 0.762,-11.43 1.27,-10.922 1.27,-9.398 0.762,-8.89 ; 0.762,-8.89 1.27,-8.382 1.27,-6.858 0.762,-6.35 ; 0.762,-6.35 1.27,-5.842 1.27,-4.318 0.762,-3.81 ; 0.762,-3.81 1.27,-3.302 1.27,-1.778 0.762,-1.27
3D body: height 10, standoff -3, extent -0.35,-23.21 0.35,-22.51
3D body: height 2, standoff 0, extent -1.27,-24.13 1.27,-21.59
3D body: height 10, standoff -3, extent -0.35,-18.13 0.35,-17.43
3D body: height 2, standoff 0, extent -1.27,-19.05 1.27,-16.51
3D body: height 10, standoff -3, extent -0.35,-15.59 0.35,-14.89
3D body: height 2, standoff 0, extent -1.27,-16.51 1.27,-13.97
3D body: height 10, standoff -3, extent -0.35,-13.05 0.35,-12.35
3D body: height 2, standoff 0, extent -1.27,-13.97 1.27,-11.43
3D body: height 10, standoff -3, extent -0.35,-10.51 0.35,-9.81
3D body: height 2, standoff 0, extent -1.27,-11.43 1.27,-8.89
3D body: height 10, standoff -3, extent -0.35,-5.43 0.35,-4.73
3D body: height 2, standoff 0, extent -1.27,-6.35 1.27,-3.81
3D body: height 10, standoff -3, extent -0.35,-2.89 0.35,-2.19
3D body: height 2, standoff 0, extent -1.27,-3.81 1.27,-1.27
3D body: height 10, standoff -3, extent -0.35,-0.35 0.35,0.35
3D body: height 2, standoff 0, extent -1.27,-1.27 1.27,1.27
3D body: height 10, standoff -3, extent -0.35,-7.97 0.35,-7.27
3D body: height 2, standoff 0, extent -1.27,-8.89 1.27,-6.35
3D body: height 10, standoff -3, extent -0.35,-20.67 0.35,-19.97
3D body: height 2, standoff 0, extent -1.27,-21.59 1.27,-19.05
3D body: height 10, standoff -3, extent -0.35,-25.75 0.35,-25.05
3D body: height 2, standoff 0, extent -1.27,-26.67 1.27,-24.13

## HEAD_254_1X12 [mm] "Header 2.54mm 1x12"
pads (12):
  round 2 hole 1: 1(0,0) 2(0,-2.54) 3(0,-5.08) 4(0,-7.62) 5(0,-10.16) 6(0,-12.7) 7(0,-15.24) 8(0,-17.78) 9(0,-20.32) 10(0,-22.86) 11(0,-25.4) 12(0,-27.94)
Top Overlay:
  lines w0.2: -0.762,-26.67 -1.27,-26.162 -1.27,-24.638 -0.762,-24.13 ; -0.762,-26.67 0.762,-26.67 ; -0.762,-26.67 -1.27,-27.178 -1.27,-28.702 -0.762,-29.21 0.762,-29.21 1.27,-28.702 1.27,-27.178 0.762,-26.67 ; -0.762,-24.13 -1.27,-23.622 -1.27,-22.098 -0.762,-21.59 ; -0.762,-24.13 0.762,-24.13 ; -0.762,-21.59 -1.27,-21.082 -1.27,-19.558 -0.762,-19.05 ; -0.762,-21.59 0.762,-21.59 ; -0.762,-19.05 -1.27,-18.542 -1.27,-17.018 -0.762,-16.51 ; -0.762,-19.05 0.762,-19.05 ; -0.762,-16.51 -1.27,-16.002 -1.27,-14.478 -0.762,-13.97 ; -0.762,-16.51 0.762,-16.51 ; -0.762,-13.97 -1.27,-13.462 -1.27,-11.938 -0.762,-11.43 ; -0.762,-13.97 0.762,-13.97 ; -0.762,-11.43 -1.27,-10.922 -1.27,-9.398 -0.762,-8.89 ; -0.762,-11.43 0.762,-11.43 ; -0.762,-8.89 -1.27,-8.382 -1.27,-6.858 -0.762,-6.35 ; -0.762,-8.89 0.762,-8.89 ; -0.762,-6.35 -1.27,-5.842 -1.27,-4.318 -0.762,-3.81 ; -0.762,-6.35 0.762,-6.35 ; -0.762,-3.81 -1.27,-3.302 -1.27,-1.778 -0.762,-1.27 ; -0.762,-3.81 0.762,-3.81 ; -0.762,-1.27 -1.27,-0.762 -1.27,0.762 -0.762,1.27 0.762,1.27 1.27,0.762 1.27,-0.762 0.762,-1.27 ; -0.762,-1.27 0.762,-1.27 ; 0.762,-26.67 1.27,-26.162 1.27,-24.638 0.762,-24.13 ; 0.762,-24.13 1.27,-23.622 1.27,-22.098 0.762,-21.59 ; 0.762,-21.59 1.27,-21.082 1.27,-19.558 0.762,-19.05 ; 0.762,-19.05 1.27,-18.542 1.27,-17.018 0.762,-16.51 ; 0.762,-16.51 1.27,-16.002 1.27,-14.478 0.762,-13.97 ; 0.762,-13.97 1.27,-13.462 1.27,-11.938 0.762,-11.43 ; 0.762,-11.43 1.27,-10.922 1.27,-9.398 0.762,-8.89 ; 0.762,-8.89 1.27,-8.382 1.27,-6.858 0.762,-6.35 ; 0.762,-6.35 1.27,-5.842 1.27,-4.318 0.762,-3.81 ; 0.762,-3.81 1.27,-3.302 1.27,-1.778 0.762,-1.27
  text "1" at -0.642,2.036 h2
Bottom Overlay:
  text "1" at -0.642,1.264 h2
Top Assembly:
  lines w0.2: -0.762,-26.67 -1.27,-26.162 -1.27,-24.638 -0.762,-24.13 ; -0.762,-26.67 0.762,-26.67 ; -0.762,-26.67 -1.27,-27.178 -1.27,-28.702 -0.762,-29.21 0.762,-29.21 1.27,-28.702 1.27,-27.178 0.762,-26.67 ; -0.762,-24.13 -1.27,-23.622 -1.27,-22.098 -0.762,-21.59 ; -0.762,-24.13 0.762,-24.13 ; -0.762,-21.59 -1.27,-21.082 -1.27,-19.558 -0.762,-19.05 ; -0.762,-21.59 0.762,-21.59 ; -0.762,-19.05 -1.27,-18.542 -1.27,-17.018 -0.762,-16.51 ; -0.762,-19.05 0.762,-19.05 ; -0.762,-16.51 -1.27,-16.002 -1.27,-14.478 -0.762,-13.97 ; -0.762,-16.51 0.762,-16.51 ; -0.762,-13.97 -1.27,-13.462 -1.27,-11.938 -0.762,-11.43 ; -0.762,-13.97 0.762,-13.97 ; -0.762,-11.43 -1.27,-10.922 -1.27,-9.398 -0.762,-8.89 ; -0.762,-11.43 0.762,-11.43 ; -0.762,-8.89 -1.27,-8.382 -1.27,-6.858 -0.762,-6.35 ; -0.762,-8.89 0.762,-8.89 ; -0.762,-6.35 -1.27,-5.842 -1.27,-4.318 -0.762,-3.81 ; -0.762,-6.35 0.762,-6.35 ; -0.762,-3.81 -1.27,-3.302 -1.27,-1.778 -0.762,-1.27 ; -0.762,-3.81 0.762,-3.81 ; -0.762,-1.27 -1.27,-0.762 -1.27,0.762 -0.762,1.27 0.762,1.27 1.27,0.762 1.27,-0.762 0.762,-1.27 ; -0.762,-1.27 0.762,-1.27 ; 0.762,-26.67 1.27,-26.162 1.27,-24.638 0.762,-24.13 ; 0.762,-24.13 1.27,-23.622 1.27,-22.098 0.762,-21.59 ; 0.762,-21.59 1.27,-21.082 1.27,-19.558 0.762,-19.05 ; 0.762,-19.05 1.27,-18.542 1.27,-17.018 0.762,-16.51 ; 0.762,-16.51 1.27,-16.002 1.27,-14.478 0.762,-13.97 ; 0.762,-13.97 1.27,-13.462 1.27,-11.938 0.762,-11.43 ; 0.762,-11.43 1.27,-10.922 1.27,-9.398 0.762,-8.89 ; 0.762,-8.89 1.27,-8.382 1.27,-6.858 0.762,-6.35 ; 0.762,-6.35 1.27,-5.842 1.27,-4.318 0.762,-3.81 ; 0.762,-3.81 1.27,-3.302 1.27,-1.778 0.762,-1.27
3D body: height 10, standoff -3, extent -0.35,-23.21 0.35,-22.51
3D body: height 2, standoff 0, extent -1.27,-24.13 1.27,-21.59
3D body: height 10, standoff -3, extent -0.35,-18.13 0.35,-17.43
3D body: height 2, standoff 0, extent -1.27,-19.05 1.27,-16.51
3D body: height 10, standoff -3, extent -0.35,-15.59 0.35,-14.89
3D body: height 2, standoff 0, extent -1.27,-16.51 1.27,-13.97
3D body: height 10, standoff -3, extent -0.35,-13.05 0.35,-12.35
3D body: height 2, standoff 0, extent -1.27,-13.97 1.27,-11.43
3D body: height 10, standoff -3, extent -0.35,-10.51 0.35,-9.81
3D body: height 2, standoff 0, extent -1.27,-11.43 1.27,-8.89
3D body: height 10, standoff -3, extent -0.35,-5.43 0.35,-4.73
3D body: height 2, standoff 0, extent -1.27,-6.35 1.27,-3.81
3D body: height 10, standoff -3, extent -0.35,-2.89 0.35,-2.19
3D body: height 2, standoff 0, extent -1.27,-3.81 1.27,-1.27
3D body: height 10, standoff -3, extent -0.35,-0.35 0.35,0.35
3D body: height 2, standoff 0, extent -1.27,-1.27 1.27,1.27
3D body: height 10, standoff -3, extent -0.35,-7.97 0.35,-7.27
3D body: height 2, standoff 0, extent -1.27,-8.89 1.27,-6.35
3D body: height 10, standoff -3, extent -0.35,-20.67 0.35,-19.97
3D body: height 2, standoff 0, extent -1.27,-21.59 1.27,-19.05
3D body: height 10, standoff -3, extent -0.35,-25.75 0.35,-25.05
3D body: height 2, standoff 0, extent -1.27,-26.67 1.27,-24.13
3D body: height 10, standoff -3, extent -0.35,-28.29 0.35,-27.59
3D body: height 2, standoff 0, extent -1.27,-29.21 1.27,-26.67

## HEAD_254_1X13 [mm] "Header 2.54mm 1x13"
pads (13):
  round 2 hole 1: 1(0,0) 2(0,-2.54) 3(0,-5.08) 4(0,-7.62) 5(0,-10.16) 6(0,-12.7) 7(0,-15.24) 8(0,-17.78) 9(0,-20.32) 10(0,-22.86) 11(0,-25.4) 12(0,-27.94) 13(0,-30.48)
Top Overlay:
  lines w0.2: -0.762,-29.21 -1.27,-29.718 -1.27,-31.242 -0.762,-31.75 0.762,-31.75 1.27,-31.242 1.27,-29.718 0.762,-29.21 ; -0.762,-29.21 0.762,-29.21 ; -0.762,-29.21 -1.27,-28.702 -1.27,-27.178 -0.762,-26.67 ; -0.762,-26.67 0.762,-26.67 ; -0.762,-26.67 -1.27,-26.162 -1.27,-24.638 -0.762,-24.13 ; -0.762,-24.13 0.762,-24.13 ; -0.762,-24.13 -1.27,-23.622 -1.27,-22.098 -0.762,-21.59 ; -0.762,-21.59 0.762,-21.59 ; -0.762,-21.59 -1.27,-21.082 -1.27,-19.558 -0.762,-19.05 ; -0.762,-19.05 0.762,-19.05 ; -0.762,-19.05 -1.27,-18.542 -1.27,-17.018 -0.762,-16.51 ; -0.762,-16.51 0.762,-16.51 ; -0.762,-16.51 -1.27,-16.002 -1.27,-14.478 -0.762,-13.97 ; -0.762,-13.97 0.762,-13.97 ; -0.762,-13.97 -1.27,-13.462 -1.27,-11.938 -0.762,-11.43 ; -0.762,-11.43 0.762,-11.43 ; -0.762,-11.43 -1.27,-10.922 -1.27,-9.398 -0.762,-8.89 ; -0.762,-8.89 0.762,-8.89 ; -0.762,-8.89 -1.27,-8.382 -1.27,-6.858 -0.762,-6.35 ; -0.762,-6.35 0.762,-6.35 ; -0.762,-6.35 -1.27,-5.842 -1.27,-4.318 -0.762,-3.81 ; -0.762,-3.81 0.762,-3.81 ; -0.762,-3.81 -1.27,-3.302 -1.27,-1.778 -0.762,-1.27 ; -0.762,-1.27 0.762,-1.27 ; -0.762,-1.27 -1.27,-0.762 -1.27,0.762 -0.762,1.27 0.762,1.27 1.27,0.762 1.27,-0.762 0.762,-1.27 ; 0.762,-29.21 1.27,-28.702 1.27,-27.178 0.762,-26.67 ; 0.762,-26.67 1.27,-26.162 1.27,-24.638 0.762,-24.13 ; 0.762,-24.13 1.27,-23.622 1.27,-22.098 0.762,-21.59 ; 0.762,-21.59 1.27,-21.082 1.27,-19.558 0.762,-19.05 ; 0.762,-19.05 1.27,-18.542 1.27,-17.018 0.762,-16.51 ; 0.762,-16.51 1.27,-16.002 1.27,-14.478 0.762,-13.97 ; 0.762,-13.97 1.27,-13.462 1.27,-11.938 0.762,-11.43 ; 0.762,-11.43 1.27,-10.922 1.27,-9.398 0.762,-8.89 ; 0.762,-8.89 1.27,-8.382 1.27,-6.858 0.762,-6.35 ; 0.762,-6.35 1.27,-5.842 1.27,-4.318 0.762,-3.81 ; 0.762,-3.81 1.27,-3.302 1.27,-1.778 0.762,-1.27
  text "1" at -0.642,2.036 h2
Bottom Overlay:
  text "1" at -0.642,1.264 h2
Top Assembly:
  lines w0.2: -0.762,-29.21 -1.27,-29.718 -1.27,-31.242 -0.762,-31.75 0.762,-31.75 1.27,-31.242 1.27,-29.718 0.762,-29.21 ; -0.762,-29.21 0.762,-29.21 ; -0.762,-29.21 -1.27,-28.702 -1.27,-27.178 -0.762,-26.67 ; -0.762,-26.67 0.762,-26.67 ; -0.762,-26.67 -1.27,-26.162 -1.27,-24.638 -0.762,-24.13 ; -0.762,-24.13 0.762,-24.13 ; -0.762,-24.13 -1.27,-23.622 -1.27,-22.098 -0.762,-21.59 ; -0.762,-21.59 0.762,-21.59 ; -0.762,-21.59 -1.27,-21.082 -1.27,-19.558 -0.762,-19.05 ; -0.762,-19.05 0.762,-19.05 ; -0.762,-19.05 -1.27,-18.542 -1.27,-17.018 -0.762,-16.51 ; -0.762,-16.51 0.762,-16.51 ; -0.762,-16.51 -1.27,-16.002 -1.27,-14.478 -0.762,-13.97 ; -0.762,-13.97 0.762,-13.97 ; -0.762,-13.97 -1.27,-13.462 -1.27,-11.938 -0.762,-11.43 ; -0.762,-11.43 0.762,-11.43 ; -0.762,-11.43 -1.27,-10.922 -1.27,-9.398 -0.762,-8.89 ; -0.762,-8.89 0.762,-8.89 ; -0.762,-8.89 -1.27,-8.382 -1.27,-6.858 -0.762,-6.35 ; -0.762,-6.35 0.762,-6.35 ; -0.762,-6.35 -1.27,-5.842 -1.27,-4.318 -0.762,-3.81 ; -0.762,-3.81 0.762,-3.81 ; -0.762,-3.81 -1.27,-3.302 -1.27,-1.778 -0.762,-1.27 ; -0.762,-1.27 0.762,-1.27 ; -0.762,-1.27 -1.27,-0.762 -1.27,0.762 -0.762,1.27 0.762,1.27 1.27,0.762 1.27,-0.762 0.762,-1.27 ; 0.762,-29.21 1.27,-28.702 1.27,-27.178 0.762,-26.67 ; 0.762,-26.67 1.27,-26.162 1.27,-24.638 0.762,-24.13 ; 0.762,-24.13 1.27,-23.622 1.27,-22.098 0.762,-21.59 ; 0.762,-21.59 1.27,-21.082 1.27,-19.558 0.762,-19.05 ; 0.762,-19.05 1.27,-18.542 1.27,-17.018 0.762,-16.51 ; 0.762,-16.51 1.27,-16.002 1.27,-14.478 0.762,-13.97 ; 0.762,-13.97 1.27,-13.462 1.27,-11.938 0.762,-11.43 ; 0.762,-11.43 1.27,-10.922 1.27,-9.398 0.762,-8.89 ; 0.762,-8.89 1.27,-8.382 1.27,-6.858 0.762,-6.35 ; 0.762,-6.35 1.27,-5.842 1.27,-4.318 0.762,-3.81 ; 0.762,-3.81 1.27,-3.302 1.27,-1.778 0.762,-1.27
3D body: height 2, standoff 0, extent -1.27,-31.75 1.27,-29.21
3D body: height 10, standoff -3, extent -0.35,-30.83 0.35,-30.13
3D body: height 2, standoff 0, extent -1.27,-29.21 1.27,-26.67
3D body: height 10, standoff -3, extent -0.35,-28.29 0.35,-27.59
3D body: height 2, standoff 0, extent -1.27,-26.67 1.27,-24.13
3D body: height 10, standoff -3, extent -0.35,-25.75 0.35,-25.05
3D body: height 2, standoff 0, extent -1.27,-21.59 1.27,-19.05
3D body: height 10, standoff -3, extent -0.35,-20.67 0.35,-19.97
3D body: height 2, standoff 0, extent -1.27,-8.89 1.27,-6.35
3D body: height 10, standoff -3, extent -0.35,-7.97 0.35,-7.27
3D body: height 2, standoff 0, extent -1.27,-1.27 1.27,1.27
3D body: height 10, standoff -3, extent -0.35,-0.35 0.35,0.35
3D body: height 2, standoff 0, extent -1.27,-3.81 1.27,-1.27
3D body: height 10, standoff -3, extent -0.35,-2.89 0.35,-2.19
3D body: height 2, standoff 0, extent -1.27,-6.35 1.27,-3.81
3D body: height 10, standoff -3, extent -0.35,-5.43 0.35,-4.73
3D body: height 2, standoff 0, extent -1.27,-11.43 1.27,-8.89
3D body: height 10, standoff -3, extent -0.35,-10.51 0.35,-9.81
3D body: height 2, standoff 0, extent -1.27,-13.97 1.27,-11.43
3D body: height 10, standoff -3, extent -0.35,-13.05 0.35,-12.35
3D body: height 2, standoff 0, extent -1.27,-16.51 1.27,-13.97
3D body: height 10, standoff -3, extent -0.35,-15.59 0.35,-14.89
3D body: height 2, standoff 0, extent -1.27,-19.05 1.27,-16.51
3D body: height 10, standoff -3, extent -0.35,-18.13 0.35,-17.43
3D body: height 2, standoff 0, extent -1.27,-24.13 1.27,-21.59
3D body: height 10, standoff -3, extent -0.35,-23.21 0.35,-22.51

## HEAD_254_1X14 [mm] "Header 2.54mm 1x14"
pads (14):
  round 2 hole 1: 1(0,0) 2(0,-2.54) 3(0,-5.08) 4(0,-7.62) 5(0,-10.16) 6(0,-12.7) 7(0,-15.24) 8(0,-17.78) 9(0,-20.32) 10(0,-22.86) 11(0,-25.4) 12(0,-27.94) 13(0,-30.48) 14(0,-33.02)
Top Overlay:
  lines w0.2: -0.762,-31.75 -1.27,-32.258 -1.27,-33.782 -0.762,-34.29 0.762,-34.29 1.27,-33.782 1.27,-32.258 0.762,-31.75 ; -0.762,-31.75 -1.27,-31.242 -1.27,-29.718 -0.762,-29.21 ; -0.762,-31.75 0.762,-31.75 ; -0.762,-29.21 -1.27,-28.702 -1.27,-27.178 -0.762,-26.67 ; -0.762,-29.21 0.762,-29.21 ; -0.762,-26.67 -1.27,-26.162 -1.27,-24.638 -0.762,-24.13 ; -0.762,-26.67 0.762,-26.67 ; -0.762,-24.13 -1.27,-23.622 -1.27,-22.098 -0.762,-21.59 ; -0.762,-24.13 0.762,-24.13 ; -0.762,-21.59 -1.27,-21.082 -1.27,-19.558 -0.762,-19.05 ; -0.762,-21.59 0.762,-21.59 ; -0.762,-19.05 -1.27,-18.542 -1.27,-17.018 -0.762,-16.51 ; -0.762,-19.05 0.762,-19.05 ; -0.762,-16.51 -1.27,-16.002 -1.27,-14.478 -0.762,-13.97 ; -0.762,-16.51 0.762,-16.51 ; -0.762,-13.97 -1.27,-13.462 -1.27,-11.938 -0.762,-11.43 ; -0.762,-13.97 0.762,-13.97 ; -0.762,-11.43 -1.27,-10.922 -1.27,-9.398 -0.762,-8.89 ; -0.762,-11.43 0.762,-11.43 ; -0.762,-8.89 -1.27,-8.382 -1.27,-6.858 -0.762,-6.35 ; -0.762,-8.89 0.762,-8.89 ; -0.762,-6.35 -1.27,-5.842 -1.27,-4.318 -0.762,-3.81 ; -0.762,-6.35 0.762,-6.35 ; -0.762,-3.81 -1.27,-3.302 -1.27,-1.778 -0.762,-1.27 ; -0.762,-3.81 0.762,-3.81 ; -0.762,-1.27 -1.27,-0.762 -1.27,0.762 -0.762,1.27 0.762,1.27 1.27,0.762 1.27,-0.762 0.762,-1.27 ; -0.762,-1.27 0.762,-1.27 ; 0.762,-31.75 1.27,-31.242 1.27,-29.718 0.762,-29.21 ; 0.762,-29.21 1.27,-28.702 1.27,-27.178 0.762,-26.67 ; 0.762,-26.67 1.27,-26.162 1.27,-24.638 0.762,-24.13 ; 0.762,-24.13 1.27,-23.622 1.27,-22.098 0.762,-21.59 ; 0.762,-21.59 1.27,-21.082 1.27,-19.558 0.762,-19.05 ; 0.762,-19.05 1.27,-18.542 1.27,-17.018 0.762,-16.51 ; 0.762,-16.51 1.27,-16.002 1.27,-14.478 0.762,-13.97 ; 0.762,-13.97 1.27,-13.462 1.27,-11.938 0.762,-11.43 ; 0.762,-11.43 1.27,-10.922 1.27,-9.398 0.762,-8.89 ; 0.762,-8.89 1.27,-8.382 1.27,-6.858 0.762,-6.35 ; 0.762,-6.35 1.27,-5.842 1.27,-4.318 0.762,-3.81 ; 0.762,-3.81 1.27,-3.302 1.27,-1.778 0.762,-1.27
  text "1" at -0.642,2.036 h2
Bottom Overlay:
  text "1" at -0.642,1.264 h2
Top Assembly:
  lines w0.2: -0.762,-31.75 -1.27,-32.258 -1.27,-33.782 -0.762,-34.29 0.762,-34.29 1.27,-33.782 1.27,-32.258 0.762,-31.75 ; -0.762,-31.75 -1.27,-31.242 -1.27,-29.718 -0.762,-29.21 ; -0.762,-31.75 0.762,-31.75 ; -0.762,-29.21 -1.27,-28.702 -1.27,-27.178 -0.762,-26.67 ; -0.762,-29.21 0.762,-29.21 ; -0.762,-26.67 -1.27,-26.162 -1.27,-24.638 -0.762,-24.13 ; -0.762,-26.67 0.762,-26.67 ; -0.762,-24.13 -1.27,-23.622 -1.27,-22.098 -0.762,-21.59 ; -0.762,-24.13 0.762,-24.13 ; -0.762,-21.59 -1.27,-21.082 -1.27,-19.558 -0.762,-19.05 ; -0.762,-21.59 0.762,-21.59 ; -0.762,-19.05 -1.27,-18.542 -1.27,-17.018 -0.762,-16.51 ; -0.762,-19.05 0.762,-19.05 ; -0.762,-16.51 -1.27,-16.002 -1.27,-14.478 -0.762,-13.97 ; -0.762,-16.51 0.762,-16.51 ; -0.762,-13.97 -1.27,-13.462 -1.27,-11.938 -0.762,-11.43 ; -0.762,-13.97 0.762,-13.97 ; -0.762,-11.43 -1.27,-10.922 -1.27,-9.398 -0.762,-8.89 ; -0.762,-11.43 0.762,-11.43 ; -0.762,-8.89 -1.27,-8.382 -1.27,-6.858 -0.762,-6.35 ; -0.762,-8.89 0.762,-8.89 ; -0.762,-6.35 -1.27,-5.842 -1.27,-4.318 -0.762,-3.81 ; -0.762,-6.35 0.762,-6.35 ; -0.762,-3.81 -1.27,-3.302 -1.27,-1.778 -0.762,-1.27 ; -0.762,-3.81 0.762,-3.81 ; -0.762,-1.27 -1.27,-0.762 -1.27,0.762 -0.762,1.27 0.762,1.27 1.27,0.762 1.27,-0.762 0.762,-1.27 ; -0.762,-1.27 0.762,-1.27 ; 0.762,-31.75 1.27,-31.242 1.27,-29.718 0.762,-29.21 ; 0.762,-29.21 1.27,-28.702 1.27,-27.178 0.762,-26.67 ; 0.762,-26.67 1.27,-26.162 1.27,-24.638 0.762,-24.13 ; 0.762,-24.13 1.27,-23.622 1.27,-22.098 0.762,-21.59 ; 0.762,-21.59 1.27,-21.082 1.27,-19.558 0.762,-19.05 ; 0.762,-19.05 1.27,-18.542 1.27,-17.018 0.762,-16.51 ; 0.762,-16.51 1.27,-16.002 1.27,-14.478 0.762,-13.97 ; 0.762,-13.97 1.27,-13.462 1.27,-11.938 0.762,-11.43 ; 0.762,-11.43 1.27,-10.922 1.27,-9.398 0.762,-8.89 ; 0.762,-8.89 1.27,-8.382 1.27,-6.858 0.762,-6.35 ; 0.762,-6.35 1.27,-5.842 1.27,-4.318 0.762,-3.81 ; 0.762,-3.81 1.27,-3.302 1.27,-1.778 0.762,-1.27
3D body: height 10, standoff -3, extent -0.35,-33.37 0.35,-32.67
3D body: height 2, standoff 0, extent -1.27,-34.29 1.27,-31.75
3D body: height 10, standoff -3, extent -0.35,-23.21 0.35,-22.51
3D body: height 2, standoff 0, extent -1.27,-24.13 1.27,-21.59
3D body: height 10, standoff -3, extent -0.35,-18.13 0.35,-17.43
3D body: height 2, standoff 0, extent -1.27,-19.05 1.27,-16.51
3D body: height 10, standoff -3, extent -0.35,-15.59 0.35,-14.89
3D body: height 2, standoff 0, extent -1.27,-16.51 1.27,-13.97
3D body: height 10, standoff -3, extent -0.35,-13.05 0.35,-12.35
3D body: height 2, standoff 0, extent -1.27,-13.97 1.27,-11.43
3D body: height 10, standoff -3, extent -0.35,-10.51 0.35,-9.81
3D body: height 2, standoff 0, extent -1.27,-11.43 1.27,-8.89
3D body: height 10, standoff -3, extent -0.35,-5.43 0.35,-4.73
3D body: height 2, standoff 0, extent -1.27,-6.35 1.27,-3.81
3D body: height 10, standoff -3, extent -0.35,-2.89 0.35,-2.19
3D body: height 2, standoff 0, extent -1.27,-3.81 1.27,-1.27
3D body: height 10, standoff -3, extent -0.35,-0.35 0.35,0.35
3D body: height 2, standoff 0, extent -1.27,-1.27 1.27,1.27
3D body: height 10, standoff -3, extent -0.35,-7.97 0.35,-7.27
3D body: height 2, standoff 0, extent -1.27,-8.89 1.27,-6.35
3D body: height 10, standoff -3, extent -0.35,-20.67 0.35,-19.97
3D body: height 2, standoff 0, extent -1.27,-21.59 1.27,-19.05
3D body: height 10, standoff -3, extent -0.35,-25.75 0.35,-25.05
3D body: height 2, standoff 0, extent -1.27,-26.67 1.27,-24.13
3D body: height 10, standoff -3, extent -0.35,-28.29 0.35,-27.59
3D body: height 2, standoff 0, extent -1.27,-29.21 1.27,-26.67
3D body: height 10, standoff -3, extent -0.35,-30.83 0.35,-30.13
3D body: height 2, standoff 0, extent -1.27,-31.75 1.27,-29.21